# Altium schematic symbol library Drossel.SchLib: 99 symbols
Pins are listed as number, name and electrical type; pins without a type are passive.

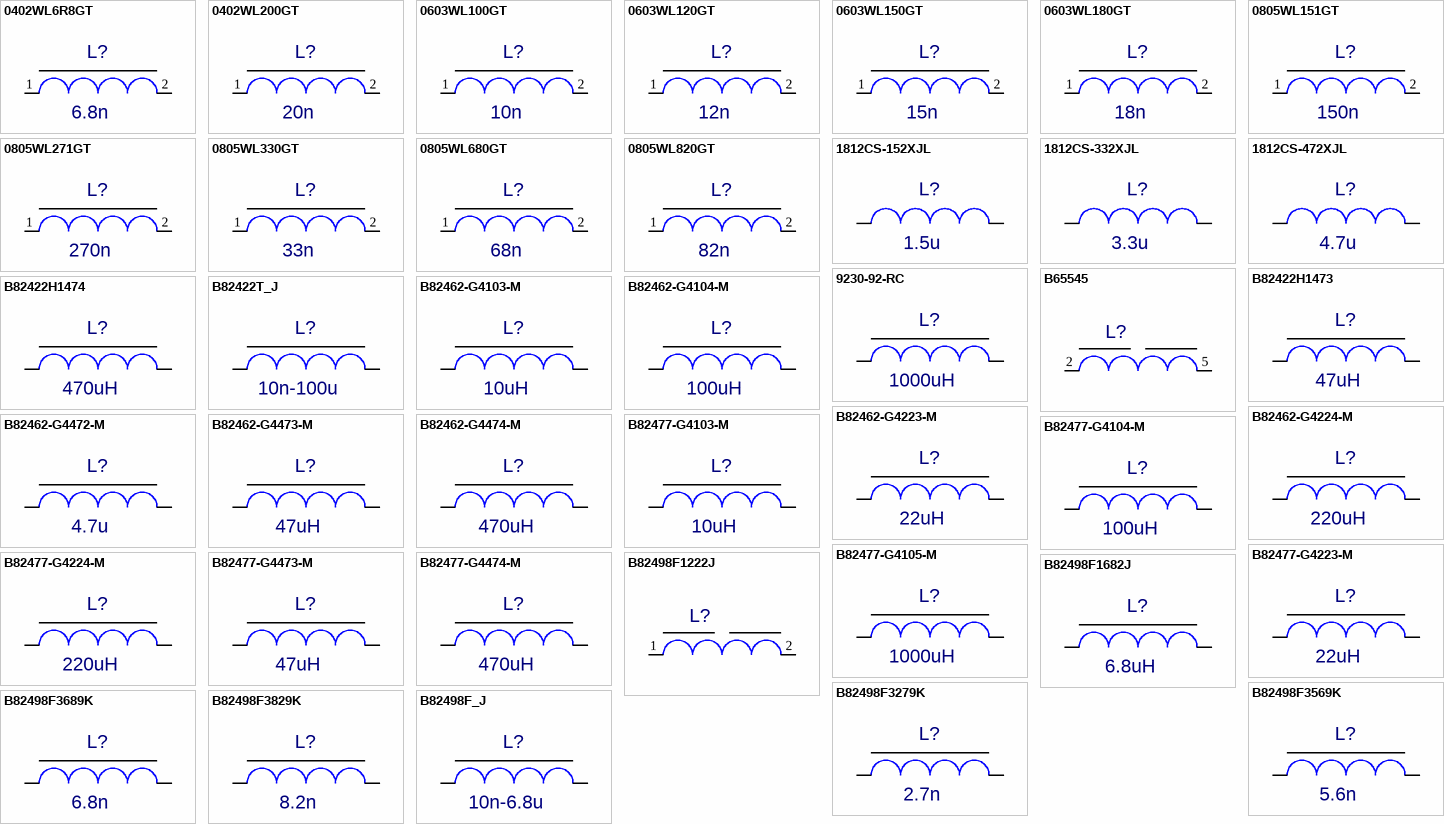
[diagram p0: symbols 0402WL6R8GT to B82498F_J]

## 0402WL6R8GT
designator L?  value 6.8n  (hidden comment: 0402WL6R8GT)
Inductor; ComponentField6: Published 8-Jun-2000; Author: pcbdesigner.ru; OriginalName: INDUCTOR
simulation model INDUCTOR
footprint 0402_ATC
pins: 1, 2
1 alternate drawing of the same symbol

## 0402WL200GT
designator L?  value 20n  (hidden comment: 0402WL200GT)
Inductor; ComponentField6: Published 8-Jun-2000; Author: pcbdesigner.ru; OriginalName: INDUCTOR
simulation model INDUCTOR
footprint 0402_ATC
pins: 1, 2
1 alternate drawing of the same symbol

## 0603WL100GT
designator L?  value 10n  (hidden comment: 0603WL100GT)
Inductor; ComponentField6: Published 8-Jun-2000; Author: pcbdesigner.ru; OriginalName: INDUCTOR
simulation model INDUCTOR
footprint 0603_ATC
pins: 1, 2
1 alternate drawing of the same symbol

## 0603WL120GT
designator L?  value 12n  (hidden comment: 0603WL120GT)
Inductor; ComponentField6: Published 8-Jun-2000; Author: pcbdesigner.ru; OriginalName: INDUCTOR
simulation model INDUCTOR
footprint 0603_ATC
pins: 1, 2
1 alternate drawing of the same symbol

## 0603WL150GT
designator L?  value 15n  (hidden comment: 0603WL150GT)
Inductor; ComponentField6: Published 8-Jun-2000; Author: pcbdesigner.ru; OriginalName: INDUCTOR
simulation model INDUCTOR
footprint 0603_ATC
pins: 1, 2
1 alternate drawing of the same symbol

## 0603WL180GT
designator L?  value 18n  (hidden comment: 0603WL180GT)
Inductor; ComponentField6: Published 8-Jun-2000; Author: pcbdesigner.ru; OriginalName: INDUCTOR
simulation model INDUCTOR
footprint 0603_ATC
pins: 1, 2
1 alternate drawing of the same symbol

## 0805WL151GT
designator L?  value 150n  (hidden comment: 0805WL151GT)
Inductor; ComponentField6: Published 8-Jun-2000; Author: pcbdesigner.ru; OriginalName: INDUCTOR
simulation model INDUCTOR
footprint 0805_ATC
pins: 1, 2
1 alternate drawing of the same symbol

## 0805WL271GT
designator L?  value 270n  (hidden comment: 0805WL271GT)
Inductor; ComponentField6: Published 8-Jun-2000; Author: pcbdesigner.ru; OriginalName: INDUCTOR
simulation model INDUCTOR
footprint 0805_ATC
pins: 1, 2
1 alternate drawing of the same symbol

## 0805WL330GT
designator L?  value 33n  (hidden comment: 0805WL330GT)
Inductor; ComponentField6: Published 8-Jun-2000; Author: pcbdesigner.ru; OriginalName: INDUCTOR
simulation model INDUCTOR
footprint 0805_ATC
pins: 1, 2
1 alternate drawing of the same symbol

## 0805WL680GT
designator L?  value 68n  (hidden comment: 0805WL680GT)
Inductor; ComponentField6: Published 8-Jun-2000; Author: pcbdesigner.ru; OriginalName: INDUCTOR
simulation model INDUCTOR
footprint 0805_ATC
pins: 1 I/O2, 2 I/O1
1 alternate drawing of the same symbol

## 0805WL820GT
designator L?  value 82n  (hidden comment: 0805WL820GT)
Inductor; ComponentField6: Published 8-Jun-2000; Author: pcbdesigner.ru; OriginalName: INDUCTOR
simulation model INDUCTOR
footprint 0805_ATC
pins: 1, 2
1 alternate drawing of the same symbol

## 1812CS-152XJL
designator L?  value 1.5u  (hidden comment: 1812CS-152XJL)
Inductor; ComponentField6: Published 8-Jun-2000; OriginalName: INDUCTOR
simulation model INDUCTOR
footprint 1812CS
pins: 1, 2
1 alternate drawing of the same symbol

## 1812CS-332XJL
designator L?  value 3.3u  (hidden comment: 1812CS-332XJL)
Inductor; ComponentField6: Published 8-Jun-2000; OriginalName: INDUCTOR
simulation model INDUCTOR
footprint 1812CS
pins: 1, 2
1 alternate drawing of the same symbol

## 1812CS-472XJL
designator L?  value 4.7u  (hidden comment: 1812CS-472XJL)
Inductor; ComponentField6: Published 8-Jun-2000; OriginalName: INDUCTOR
simulation model INDUCTOR
footprint 1812CS
pins: 1, 2
1 alternate drawing of the same symbol

## 9230-92-RC
designator L?  value 1000uH  (hidden comment: 9230-92-RC)
Inductor; ComponentField6: Published 8-Jun-2000; OriginalName: INDUCTOR
simulation model INDUCTOR
footprint 9230_SERIES_PRK
footprint 9230_SERIES_Primary
pins: 1, 2
1 alternate drawing of the same symbol

## B65545
designator L?  (value not drawn)
Author: pcbdesigner.ru; Value: *
footprint B65545
pins: 1 hidden, 2, 3 hidden, 4 hidden, 5, 6 hidden, 7 hidden

## B82422H1473
designator L?  value 47uH  (hidden comment: B82422H1473)
Inductor; ComponentField6: Published 8-Jun-2000; OriginalName: INDUCTOR
simulation model INDUCTOR
footprint B82422H
pins: 1, 2
1 alternate drawing of the same symbol

## B82422H1474
designator L?  value 470uH  (hidden comment: B82422H1474)
Inductor; ComponentField6: Published 8-Jun-2000; OriginalName: INDUCTOR
simulation model INDUCTOR
footprint B82422H
pins: 1, 2
1 alternate drawing of the same symbol

## B82422T_J
designator L?  value 10n-100u  (hidden comment: B82422T_J)
Inductor; ComponentField6: Published 8-Jun-2000; OriginalName: INDUCTOR
simulation model INDUCTOR
footprint CF322513_Abris
footprint CF322513_Primary
pins: 1, 2
1 alternate drawing of the same symbol

## B82462-G4103-M
designator L?  value 10uH  (hidden comment: B82462-G4103-M)
Inductor; ComponentField6: Published 8-Jun-2000; OriginalName: INDUCTOR
simulation model INDUCTOR
footprint B82462-G4_Abris
footprint B82462-G4_Primary
pins: 1, 2
1 alternate drawing of the same symbol

## B82462-G4104-M
designator L?  value 100uH  (hidden comment: B82462-G4104-M)
Inductor; ComponentField6: Published 8-Jun-2000; OriginalName: INDUCTOR
simulation model INDUCTOR
footprint B82462-G4_Abris
footprint B82462-G4_Primary
pins: 1, 2
1 alternate drawing of the same symbol

## B82462-G4223-M
designator L?  value 22uH  (hidden comment: B82462-G4223-M)
Inductor; ComponentField6: Published 8-Jun-2000; OriginalName: INDUCTOR
simulation model INDUCTOR
footprint B82462-G4_Abris
footprint B82462-G4_Primary
pins: 1, 2
1 alternate drawing of the same symbol

## B82462-G4224-M
designator L?  value 220uH  (hidden comment: B82462-G4224-M)
Inductor; ComponentField6: Published 8-Jun-2000; OriginalName: INDUCTOR
simulation model INDUCTOR
footprint B82462-G4_Abris
footprint B82462-G4_Primary
pins: 1, 2
1 alternate drawing of the same symbol

## B82462-G4472-M
designator L?  value 4.7u  (hidden comment: B82462-G4472-M)
Inductor; ComponentField6: Published 8-Jun-2000; OriginalName: INDUCTOR
simulation model INDUCTOR
footprint B82462-G4_Abris
footprint B82462-G4_Primary
pins: 1, 2
1 alternate drawing of the same symbol

## B82462-G4473-M
designator L?  value 47uH  (hidden comment: B82462-G4473-M)
Inductor; ComponentField6: Published 8-Jun-2000; OriginalName: INDUCTOR
simulation model INDUCTOR
footprint B82462-G4_Abris
footprint B82462-G4_Primary
pins: 1, 2
1 alternate drawing of the same symbol

## B82462-G4474-M
designator L?  value 470uH  (hidden comment: B82462-G4474-M)
Inductor; ComponentField6: Published 8-Jun-2000; OriginalName: INDUCTOR
simulation model INDUCTOR
footprint B82462-G4_Abris
footprint B82462-G4_Primary
pins: 1, 2
1 alternate drawing of the same symbol

## B82477-G4103-M
designator L?  value 10uH  (hidden comment: B82477-G4103-M)
Inductor; ComponentField6: Published 8-Jun-2000; OriginalName: INDUCTOR
simulation model INDUCTOR
footprint B82477-G4_Abris
footprint B82477-G4_Primary
pins: 1, 2
1 alternate drawing of the same symbol

## B82477-G4104-M
designator L?  value 100uH  (hidden comment: B82477-G4104-M)
Inductor; ComponentField6: Published 8-Jun-2000; OriginalName: INDUCTOR
simulation model INDUCTOR
footprint B82477-G4_Abris
footprint B82477-G4_Primary
pins: 1, 2
1 alternate drawing of the same symbol

## B82477-G4105-M
designator L?  value 1000uH  (hidden comment: B82477-G4105-M)
Inductor; ComponentField6: Published 8-Jun-2000; OriginalName: INDUCTOR
simulation model INDUCTOR
footprint B82477-G4_Abris
footprint B82477-G4_Primary
pins: 1, 2
1 alternate drawing of the same symbol

## B82477-G4223-M
designator L?  value 22uH  (hidden comment: B82477-G4223-M)
Inductor; ComponentField6: Published 8-Jun-2000; OriginalName: INDUCTOR
simulation model INDUCTOR
footprint B82477-G4_Abris
footprint B82477-G4_Primary
pins: 1, 2
1 alternate drawing of the same symbol

## B82477-G4224-M
designator L?  value 220uH  (hidden comment: B82477-G4224-M)
Inductor; ComponentField6: Published 8-Jun-2000; OriginalName: INDUCTOR
simulation model INDUCTOR
footprint B82477-G4_Abris
footprint B82477-G4_Primary
pins: 1, 2
1 alternate drawing of the same symbol

## B82477-G4473-M
designator L?  value 47uH  (hidden comment: B82477-G4473-M)
Inductor; ComponentField6: Published 8-Jun-2000; OriginalName: INDUCTOR
simulation model INDUCTOR
footprint B82477-G4_Abris
footprint B82477-G4_Primary
pins: 1, 2
1 alternate drawing of the same symbol

## B82477-G4474-M
designator L?  value 470uH  (hidden comment: B82477-G4474-M)
Inductor; ComponentField6: Published 8-Jun-2000; OriginalName: INDUCTOR
simulation model INDUCTOR
footprint B82477-G4_Abris
footprint B82477-G4_Primary
pins: 1, 2
1 alternate drawing of the same symbol

## B82498F1222J
designator L?  (value not drawn)
Author: pcbdesigner.ru; Value: *
footprint 0805_ATC
pins: 1, 2

## B82498F1682J
designator L?  value 6.8uH  (hidden comment: B82498F1682J)
Inductor; ComponentField6: Published 8-Jun-2000; OriginalName: INDUCTOR
simulation model INDUCTOR
footprint SIMID 0805-B
pins: 1, 2
1 alternate drawing of the same symbol

## B82498F3279K
designator L?  value 2.7n  (hidden comment: B82498F3279K)
Inductor; ComponentField6: Published 8-Jun-2000; OriginalName: INDUCTOR
simulation model INDUCTOR
footprint SIMID 0805-F
pins: 1, 2
1 alternate drawing of the same symbol

## B82498F3569K
designator L?  value 5.6n  (hidden comment: B82498F3569K)
Inductor; ComponentField6: Published 8-Jun-2000; OriginalName: INDUCTOR
simulation model INDUCTOR
footprint SIMID 0805-B
pins: 1, 2
1 alternate drawing of the same symbol

## B82498F3689K
designator L?  value 6.8n  (hidden comment: B82498F3689K)
Inductor; ComponentField6: Published 8-Jun-2000; OriginalName: INDUCTOR
simulation model INDUCTOR
footprint SIMID 0805-F
pins: 1, 2
1 alternate drawing of the same symbol

## B82498F3829K
designator L?  value 8.2n  (hidden comment: B82498F3829K)
Inductor; ComponentField6: Published 8-Jun-2000; OriginalName: INDUCTOR
simulation model INDUCTOR
footprint SIMID 0805-B
pins: 1, 2
1 alternate drawing of the same symbol

## B82498F_J
designator L?  value 10n-6.8u  (hidden comment: B82498F_J)
Inductor; ComponentField6: Published 8-Jun-2000; OriginalName: INDUCTOR
simulation model INDUCTOR
footprint SIMID 0805-B
pins: 1, 2
1 alternate drawing of the same symbol

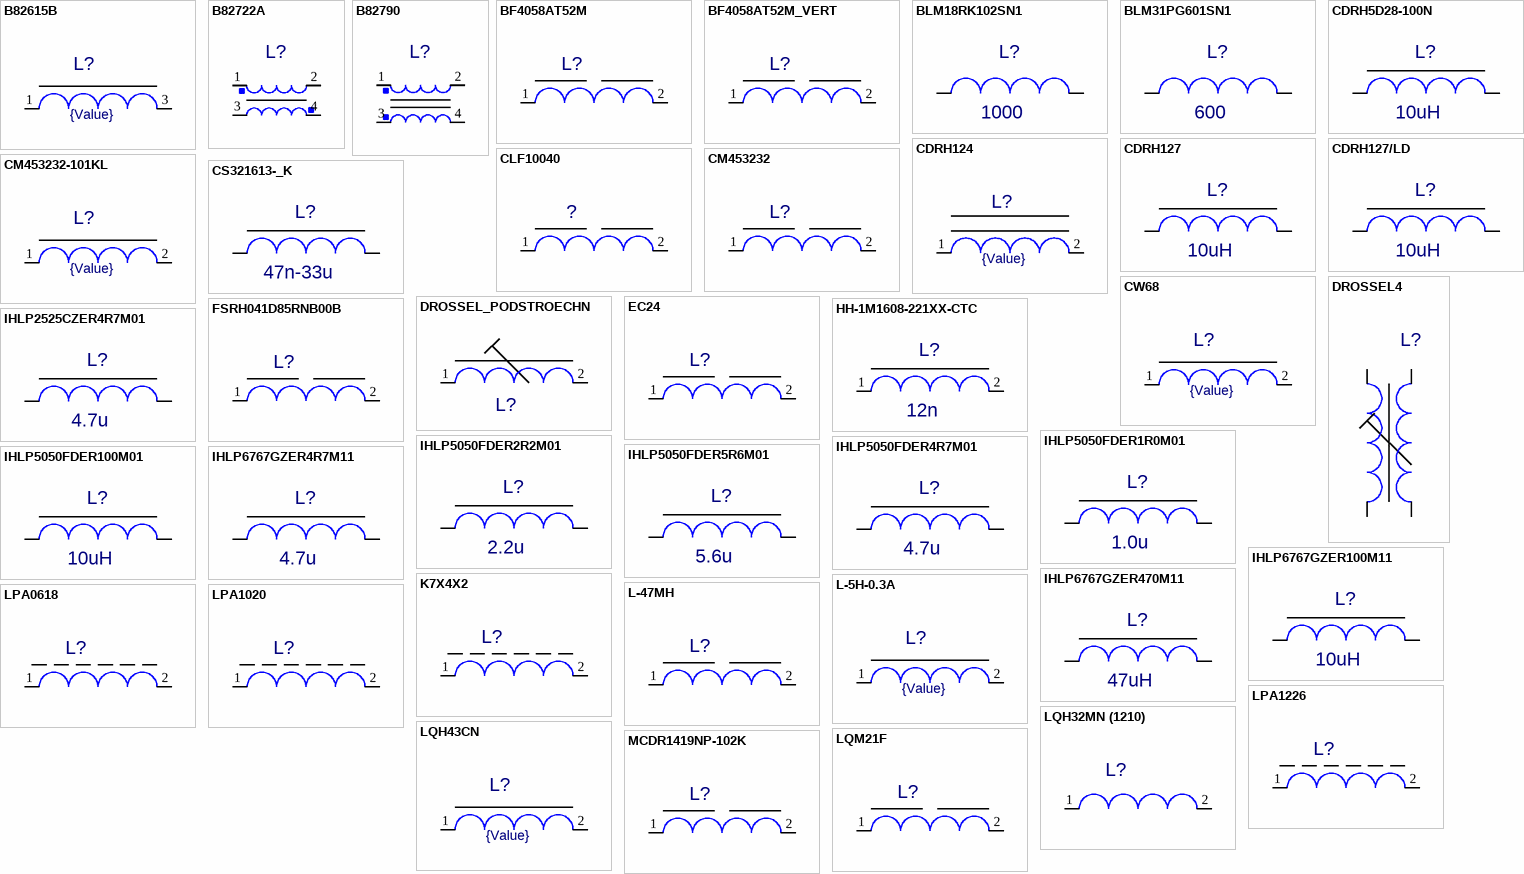
[diagram p1: symbols B82615B to MCDR1419NP-102K]

## B82615B
designator L?  value {Value}  (hidden comment: B82615B)
Author: pcbdesigner.ru
footprint B82615B
pins: 1, 2 hidden, 3 2, 4 hidden

## B82722A
designator L?  (value not drawn)
Value: {Value}; Author: pcbdesigner.ru
footprint B82722A
pins: 1, 2, 3, 4

## B82790
designator L?  (value not drawn)
Value: {Value}; Author: pcbdesigner.ru
footprint B82790
pins: 1, 2, 3, 4

## BF4058AT52M
designator L?  (value not drawn)
Author: pcbdesigner.ru; Value: *
footprint BF4058AT52M
pins: 1, 2

## BF4058AT52M_VERT
designator L?  (value not drawn)
Author: pcbdesigner.ru; Value: *
footprint BF4058AT52M_V
pins: 1, 2

## BLM18RK102SN1
designator L?  value 1000  (hidden comment: BLM18RK102SN1)
Inductor; ComponentField6: Published 8-Jun-2000; OriginalName: INDUCTOR
simulation model INDUCTOR
footprint R-0603
pins: 1, 2
1 alternate drawing of the same symbol

## BLM31PG601SN1
designator L?  value 600  (hidden comment: BLM31PG601SN1)
Inductor; ComponentField6: Published 8-Jun-2000; OriginalName: INDUCTOR
simulation model INDUCTOR
footprint R-1206
pins: 1, 2
1 alternate drawing of the same symbol

## CDRH5D28-100N
designator L?  value 10uH  (hidden comment: CDRH5D28-100N)
Inductor; ComponentField6: Published 8-Jun-2000; OriginalName: INDUCTOR
simulation model INDUCTOR
footprint DRH5D28
pins: 1, 2
1 alternate drawing of the same symbol

## CDRH124
designator L?  value {Value}  (hidden comment: CDRH124)
Author: pcbdesigner.ru
footprint CDRH124_Abris
footprint CDRH124_Primary
pins: 1, 2

## CDRH127
designator L?  value 10uH  (hidden comment: CDRH127)
Inductor; ComponentField6: Published 8-Jun-2000; OriginalName: INDUCTOR
simulation model INDUCTOR
footprint B82477-G4_Abris
footprint B82477-G4_Primary
pins: 1, 2
1 alternate drawing of the same symbol

## CDRH127/LD
designator L?  value 10uH  (hidden comment: CDRH127/LD)
Inductor; ComponentField6: Published 8-Jun-2000; OriginalName: INDUCTOR
simulation model INDUCTOR
footprint B82477-G4_Abris
footprint B82477-G4_Primary
pins: 1, 2
1 alternate drawing of the same symbol

## CLF10040
designator ?  (value not drawn)
Author: pcbdesigner.ru; Value: *
footprint CLF10040
pins: 1, 2

## CM453232
designator L?  (value not drawn)
Author: pcbdesigner.ru; Value: *
footprint 1812CS
pins: 1, 2

## CM453232-101KL
designator L?  value {Value}  (hidden comment: CM453232-101KL)
Author: pcbdesigner.ru
footprint CM453232
pins: 1, 2

## CS321613-_K
designator L?  value 47n-33u  (hidden comment: CS321613-_K)
Inductor; ComponentField6: Published 8-Jun-2000; OriginalName: INDUCTOR
simulation model INDUCTOR
footprint L-1206
pins: 1, 2
1 alternate drawing of the same symbol

## CW68
designator L?  value {Value}  (hidden comment: CW68)
Author: pcbdesigner.ru
footprint CW68
pins: 1, 2

## DROSSEL4
designator L?  (value not drawn)
Author: pcbdesigner.ru; Value: *
footprint DROSSEL_4
pins: 1, 2, 3, 4

## DROSSEL_PODSTROECHN
designator L?  (value not drawn)
Author: pcbdesigner.ru; Value: *
footprint DROSSEL3
pins: 1, 2

## EC24
designator L?  (value not drawn)
Author: pcbdesigner.ru; Value: *
footprint EC24
pins: 1, 2

## FSRH041D85RNB00B
designator L?  (value not drawn)
Author: pcbdesigner.ru; Value: *
footprint FSRH041D85RNB00B
pins: 1, 2

## HH-1M1608-221XX-CTC
designator L?  value 12n  (hidden comment: HH-1M1608-221XX-CTC)
Inductor; ComponentField6: Published 8-Jun-2000; Author: pcbdesigner.ru; OriginalName: INDUCTOR
simulation model INDUCTOR
footprint 0603_ATC
pins: 1, 2
1 alternate drawing of the same symbol

## IHLP2525CZER4R7M01
designator L?  value 4.7u  (hidden comment: IHLP2525CZER4R7M01)
Inductor; ComponentField6: Published 8-Jun-2000; OriginalName: INDUCTOR
simulation model INDUCTOR
footprint IHLP_2525CZ
pins: 1, 2
1 alternate drawing of the same symbol

## IHLP5050FDER1R0M01
designator L?  value 1.0u  (hidden comment: IHLP5050FDER1R0M01)
Inductor; ComponentField6: Published 8-Jun-2000; OriginalName: INDUCTOR
simulation model INDUCTOR
footprint IHLP_5050FD_Abris
footprint IHLP_5050FD_Primary
pins: 1, 2
1 alternate drawing of the same symbol

## IHLP5050FDER2R2M01
designator L?  value 2.2u  (hidden comment: IHLP5050FDER2R2M01)
Inductor; ComponentField6: Published 8-Jun-2000; OriginalName: INDUCTOR
simulation model INDUCTOR
footprint IHLP_5050FD_Abris
footprint IHLP_5050FD_Primary
pins: 1, 2
1 alternate drawing of the same symbol

## IHLP5050FDER4R7M01
designator L?  value 4.7u  (hidden comment: IHLP5050FDER4R7M01)
Inductor; ComponentField6: Published 8-Jun-2000; OriginalName: INDUCTOR
simulation model INDUCTOR
footprint IHLP_5050FD_Abris
footprint IHLP_5050FD_Primary
pins: 1, 2
1 alternate drawing of the same symbol

## IHLP5050FDER5R6M01
designator L?  value 5.6u  (hidden comment: IHLP5050FDER5R6M01)
Inductor; ComponentField6: Published 8-Jun-2000; OriginalName: INDUCTOR
simulation model INDUCTOR
footprint IHLP_5050FD_Abris
footprint IHLP_5050FD_Primary
pins: 1, 2
1 alternate drawing of the same symbol

## IHLP5050FDER100M01
designator L?  value 10uH  (hidden comment: IHLP5050FDER100M01)
Inductor; ComponentField6: Published 8-Jun-2000; OriginalName: INDUCTOR
simulation model INDUCTOR
footprint IHLP_5050FD_Abris
footprint IHLP_5050FD_Primary
pins: 1, 2
1 alternate drawing of the same symbol

## IHLP6767GZER4R7M11
designator L?  value 4.7u  (hidden comment: IHLP6767GZER4R7M11)
Inductor; ComponentField6: Published 8-Jun-2000; OriginalName: INDUCTOR
simulation model INDUCTOR
footprint IHLP_6767GZ_11_Abris
footprint IHLP_6767GZ_11_Primary
pins: 1, 2
1 alternate drawing of the same symbol

## IHLP6767GZER100M11
designator L?  value 10uH  (hidden comment: IHLP6767GZER100M11)
Inductor; ComponentField6: Published 8-Jun-2000; OriginalName: INDUCTOR
simulation model INDUCTOR
footprint IHLP_6767GZ_11_Abris
footprint IHLP_6767GZ_11_Primary
pins: 1, 2
1 alternate drawing of the same symbol

## IHLP6767GZER470M11
designator L?  value 47uH  (hidden comment: IHLP6767GZER470M11)
Inductor; ComponentField6: Published 8-Jun-2000; OriginalName: INDUCTOR
simulation model INDUCTOR
footprint IHLP_6767GZ_11_Abris
footprint IHLP_6767GZ_11_Primary
pins: 1, 2
1 alternate drawing of the same symbol

## K7X4X2
designator L?  (value not drawn)
Author: pcbdesigner.ru; Value: *
footprint K7X4X2_PRK
footprint K7X4X2_Primary
pins: 1, 2

## L-5Н-0.3A
designator L?  value {Value}  (hidden comment: L-5Н-0.3A)
Author: pcbdesigner.ru
footprint DROSSEL-5H-0,3MA_PRK
footprint DROSSEL-5H-0,3MA_Primary
pins: 1, 2

## L-47MH
designator L?  (value not drawn)
Author: pcbdesigner.ru; Value: *
footprint D10P05
pins: 1, 2

## LPA0618
designator L?  (value not drawn)
Author: pcbdesigner.ru; Value: *
footprint LPA0618_PRK
footprint LPA0618_Primary
pins: 1, 2

## LPA1020
designator L?  (value not drawn)
Author: pcbdesigner.ru; Value: *
footprint LPA1020_PRK
footprint LPA1020_Primary
pins: 1, 2

## LPA1226
designator L?  (value not drawn)
Author: pcbdesigner.ru; Value: *
footprint LPA1226_PRK
footprint LPA1226_Primary
pins: 1, 2

## LQH32MN (1210)
designator L?  (value not drawn)
Author: pcbdesigner.ru; Value: *
footprint LQH32M (1210)
pins: 1, 2

## LQH43CN
designator L?  value {Value}  (hidden comment: LQH43CN)
Author: pcbdesigner.ru
footprint 1812CS
pins: 1, 2

## LQM21F
designator L?  (value not drawn)
Author: pcbdesigner.ru; Value: *
footprint SIMID 0805-B
pins: 1, 2

## MCDR1419NP-102K
designator L?  (value not drawn)
Author: pcbdesigner.ru; Value: *
footprint MCDR1419NP-102K
pins: 1, 2

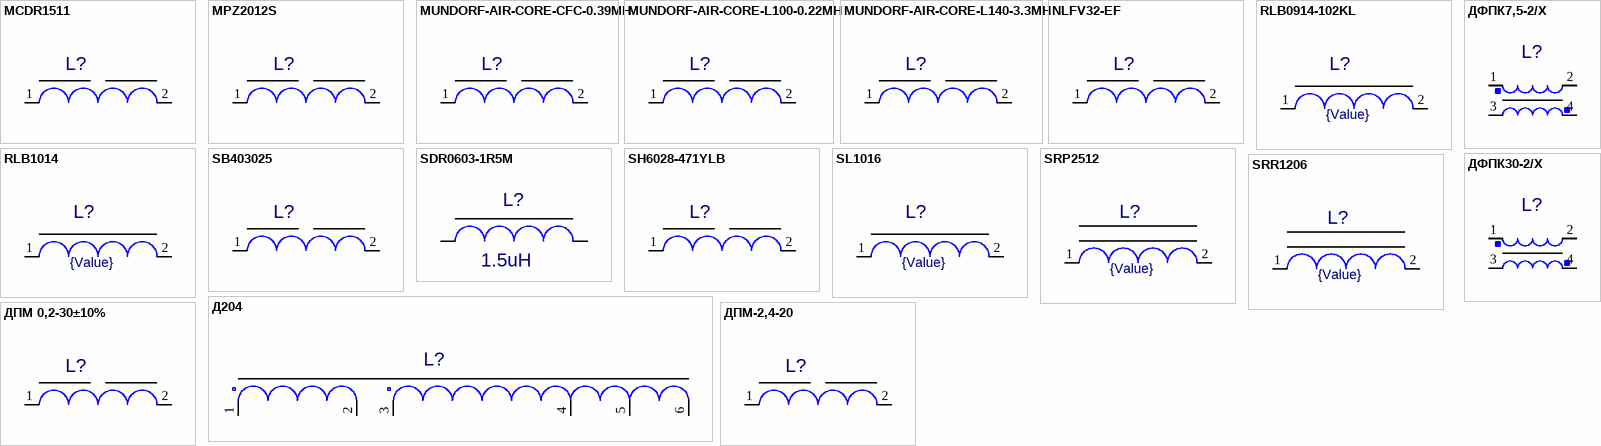
[diagram p2: symbols MCDR1511 to ДФПК30-2/Х]

## MCDR1511
designator L?  (value not drawn)
Author: pcbdesigner.ru; Value: *
footprint MCDR1511
pins: 1, 2

## MPZ2012S
designator L?  (value not drawn)
Author: pcbdesigner.ru; Value: *
footprint 0805_ATC
pins: 1, 2

## MUNDORF-AIR-CORE-CFC-0.39MH
designator L?  (value not drawn)
Author: pcbdesigner.ru; Value: *
footprint MUNDORF-AIR-CORE-CFC-0.39MH
pins: 1, 2

## MUNDORF-AIR-CORE-L100-0.22MH
designator L?  (value not drawn)
Author: pcbdesigner.ru; Value: *
footprint MUNDORF-AIR-CORE-L100-0.22MH
pins: 1, 2

## MUNDORF-AIR-CORE-L140-3.3MH
designator L?  (value not drawn)
Author: pcbdesigner.ru; Value: *
footprint MUNDORF-AIR-CORE-L140-3.3MH
pins: 1, 2

## NLFV32-EF
designator L?  (value not drawn)
Author: pcbdesigner.ru; Value: *
footprint NLFV32-EF
pins: 1, 2

## RLB0914-102KL
designator L?  value {Value}  (hidden comment: RLB0914-102KL)
Author: pcbdesigner.ru
footprint RLB0914
pins: 1, 2

## RLB1014
designator L?  value {Value}  (hidden comment: RLB1014)
Author: pcbdesigner.ru
footprint RLB1014
pins: 1, 2

## SB403025
designator L?  (value not drawn)
Author: pcbdesigner.ru; Value: *
footprint SB403025
pins: 1, 2

## SDR0603-1R5M
designator L?  value 1.5uH  (hidden comment: SDR0603-1R5M)
Inductor; ComponentField6: Published 8-Jun-2000; OriginalName: INDUCTOR
simulation model INDUCTOR
footprint DR0603
pins: 1, 2
1 alternate drawing of the same symbol

## SH6028-471YLB
designator L?  (value not drawn)
Author: pcbdesigner.ru; Value: *
footprint SH6028-L
pins: 1, 2

## SL1016
designator L?  value {Value}  (hidden comment: SL1016)
Author: pcbdesigner.ru
footprint SL1016
pins: 1, 2

## SRP2512
designator L?  value {Value}  (hidden comment: SRP2512)
Author: pcbdesigner.ru
footprint SRP2512
pins: 1, 2

## SRR1206
designator L?  value {Value}  (hidden comment: SRR1206)
Author: pcbdesigner.ru
footprint SRR1206_Abris
footprint SRR1206_Primary
pins: 1, 2

## Д204
designator L?  (value not drawn)
Author: pcbdesigner.ru; Value: *
footprint Д204
pins: 1, 2, 3, 4, 5, 6

## ДПМ 0,2-30±10%
designator L?  (value not drawn)
Author: pcbdesigner.ru; Value: *
footprint ДПМ 0,2-30±10%_PRK
footprint ДПМ 0,2-30±10%_Primary
pins: 1, 2

## ДПМ-2,4-20
designator L?  (value not drawn)
Author: pcbdesigner.ru; Value: *
footprint ДПМ-2.4-20
pins: 1, 2

## ДФПК7,5-2/Х
designator L?  (value not drawn)
Value: {Value}; Author: pcbdesigner.ru
footprint ДФПК7,5-2/Х
pins: 1, 2, 3, 4

## ДФПК30-2/Х
designator L?  (value not drawn)
Value: {Value}; Author: pcbdesigner.ru
footprint ДФПК30-2/Х
pins: 1, 2, 3, 4